# Altium footprint library 1_to_5_Pin.PcbLib: 195 footprints (part 13 of 13)
Each footprint in its own frame and in the unit in brackets; x right, y up, seen from the top. Pads: shape width x height; smd on the part's side, far side on the other; paste and mask are expansions set on the pad; w line width, h text height; cw(c..) or ccw(c..) is an arc to the next point about the centre after c.
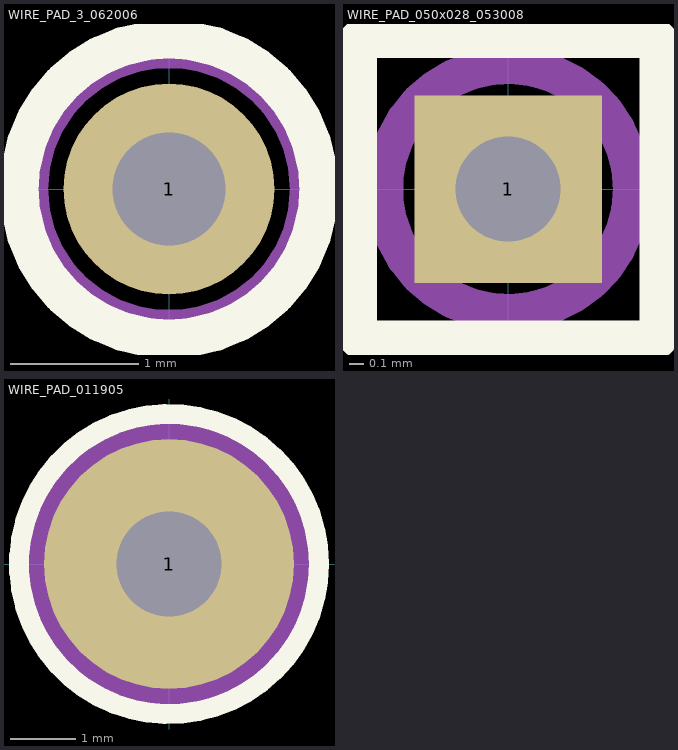
[diagram p12: the footprints below, top view; thin cyan lines are the x and y axes]

## WIRE_PAD_3_062006 [mil] "FEATURE TH PCB"
pads (1):
  round 65 hole 35: 1(0,0)
Top Overlay:
  circle w12: c0,0 r46.26
Assembly Outline:
  circle w10: c0,0 r42.33

## WIRE_PAD_050x028_053008 [mil] "FEATURE TH PCB"
pads (1):
  rect 50x50 hole 28: 1(0,0)
Top Overlay:
  lines w10: -40,-40 40,-40 40,40 -40,40 -40,-40
Assembly Outline:
  circle w10: c0,0 r33
Assembly Designator:
  text ".Designator" at -60,50 h40
Assembly Comment:
  text ".Comment" at -120,-80 h40

## WIRE_PAD_011905 [mm] "FEATURE TH PCB"
pads (1):
  round 3.81 hole 1.6: 1(0,0)
Top Overlay:
  circle w0.305: c0,0 r2.286
Assembly Outline:
  circle w1.27: c0,0 r1.524